# Altium footprint library Ver5.PcbLib: 14 footprints
Each footprint in its own frame and in the unit in brackets; x right, y up, seen from the top. Pads: shape width x height; smd on the part's side, far side on the other; paste and mask are expansions set on the pad; w line width, h text height; cw(c..) or ccw(c..) is an arc to the next point about the centre after c.
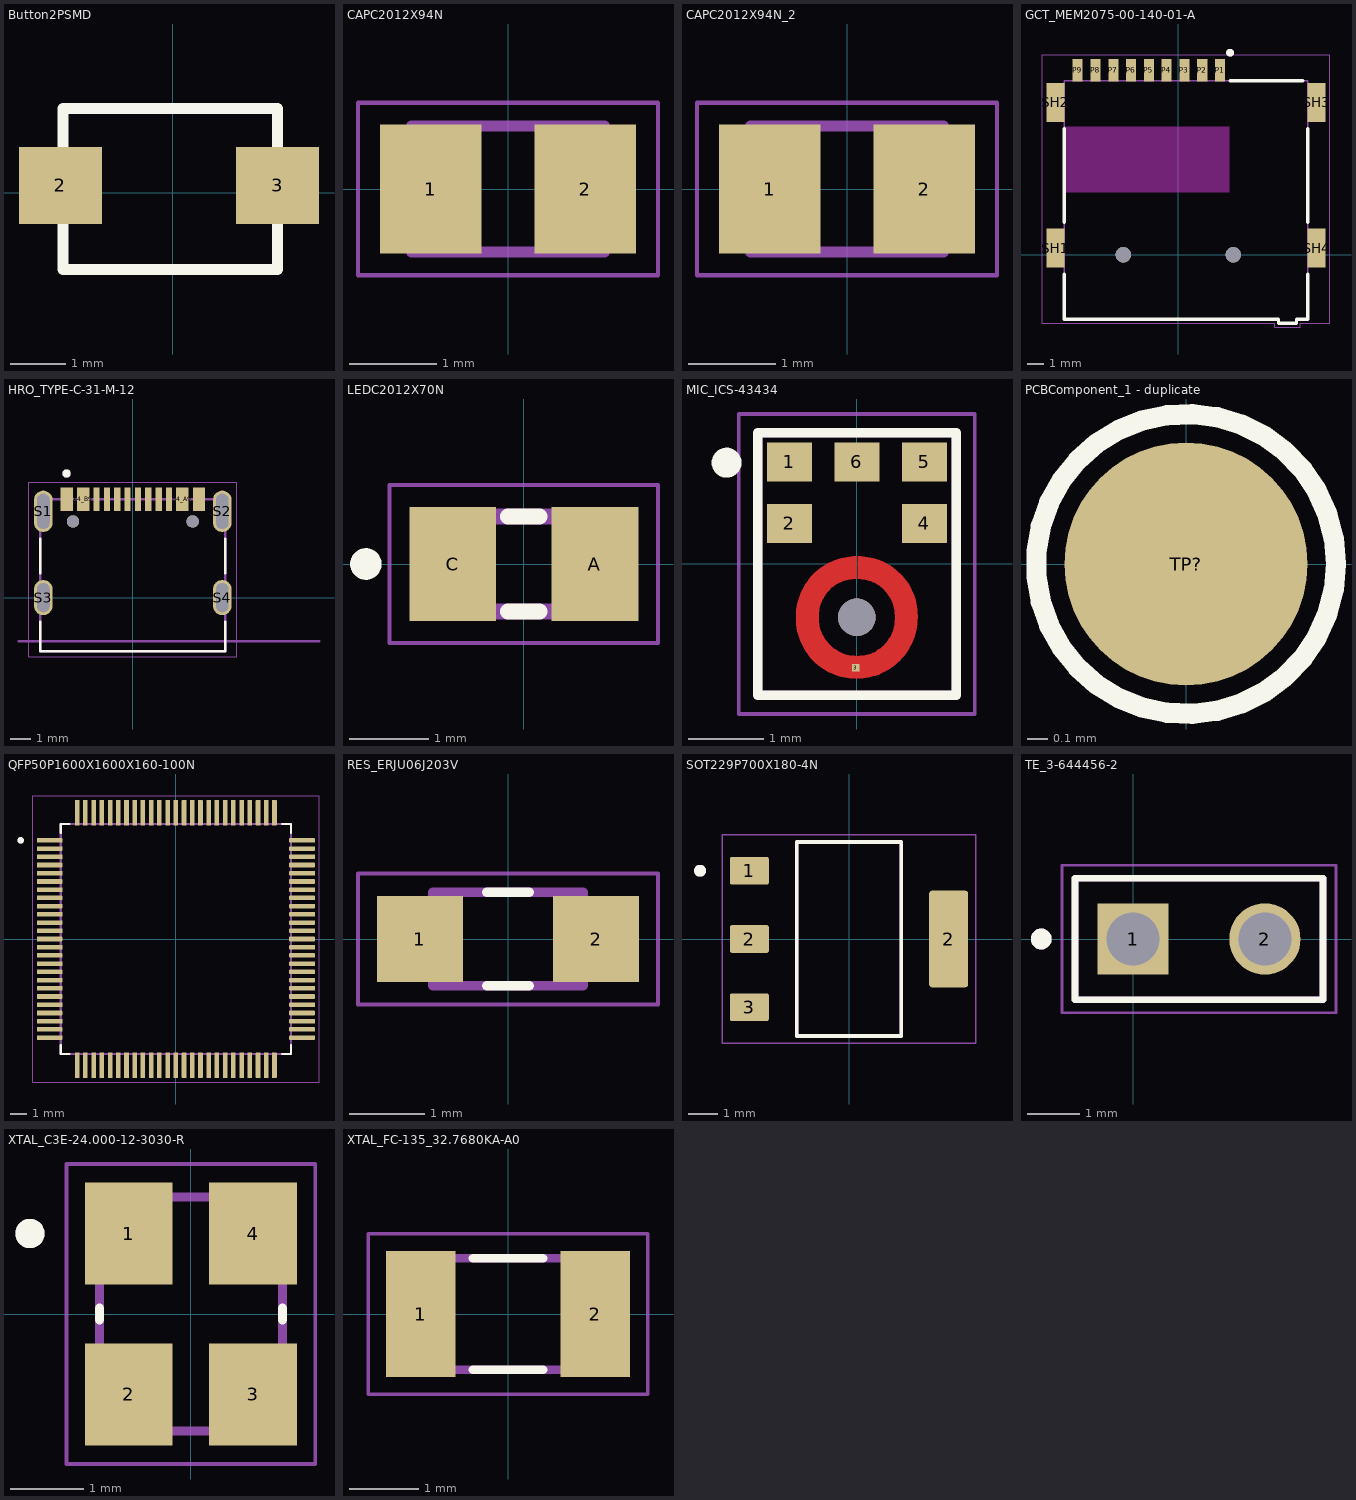
[diagram p0: the footprints below, top view; thin cyan lines are the x and y axes]

## Button2PSMD [mm]
pads (2):
  rect 1.5x1.4 smd: 2(-2.032,0.127) 3(1.905,0.127)
Top Overlay:
  lines w0.2: 1.905,1.503 1.905,-1.397 -1.988,-1.397 -1.988,-0.254 -1.988,1.524 1.905,1.524
3D body "User Library-Pushbutton3x4x2.STEP": height 2, standoff 0, extent -2.45,-1.323 2.45,1.577

## CAPC2012X94N [mm]
pads (2):
  rect 1.16x1.47 smd: 1(-0.88,0) 2(0.88,0)
Mechanical 13:
  lines w0.127: -1.1,-0.72 1.1,-0.72 1.1,0.72 -1.1,0.72 -1.1,-0.72
Mechanical 15:
  lines w0.05: -1.713,-0.983 1.713,-0.983 1.713,0.983 -1.713,0.983 -1.713,-0.983
3D body "step_temp.STEP": height 0.94, standoff 0, extent -1.005,-0.625 1.005,0.625

## CAPC2012X94N_2 [mm]
pads (2):
  rect 1.16x1.47 smd: 1(-0.88,0) 2(0.88,0)
Mechanical 13:
  lines w0.127: -1.1,-0.72 1.1,-0.72 1.1,0.72 -1.1,0.72 -1.1,-0.72
Mechanical 15:
  lines w0.05: -1.713,-0.983 1.713,-0.983 1.713,0.983 -1.713,0.983 -1.713,-0.983
3D body "step_temp.STEP": height 0.94, standoff 0, extent -1.005,-0.625 1.005,0.625

## GCT_MEM2075-00-140-01-A [mm]
pads (15):
  rect 0.62x1.4 smd: P1(2.58,11.42) P2(1.48,11.42) P3(0.38,11.42) P4(-0.72,11.42) P5(-1.82,11.42) P6(-2.92,11.42) P7(-4.02,11.42) P8(-5.12,11.42) P9(-6.22,11.42)
  rect 1.1x2.4 smd: SH1(-7.6,0.42) SH2(-7.6,9.42) SH3(8.55,9.42) SH4(8.55,0.42)
  round 0.95 hole 0.95 unplated: ""(-3.4,0) ""(3.4,0)
Top Overlay:
  circle w0.24: c3.2,12.5 r0.12
  lines w0.2: -7.05,-1.2 -7.05,-3.98 6.2,-3.98 6.2,-4.23 7.3,-4.23 7.3,-3.98 8,-3.98 8,-1.2 ; -7.05,2 -7.05,7.8 ; 3.2,10.77 7.7,10.77 ; 8,2 8,7.8
Keep-Out Layer:
  region: 3.15,3.87 -7.05,3.87 -7.05,7.92 3.15,7.92
Mechanical 13:
  circle w0.24: c3.2,12.5 r0.12
  lines w0.1: -7.05,-3.98 -7.05,10.77 8,10.77 8,-3.98 7.3,-3.98 7.3,-4.23 6.2,-4.23 6.2,-3.98 -7.05,-3.98
Mechanical 15:
  lines w0.05: -8.4,-4.23 5.95,-4.23 5.95,-4.48 7.55,-4.48 7.55,-4.23 9.35,-4.23 9.35,12.37 -8.4,12.37 -8.4,-4.23
3D body "step_temp.STEP": height 1.45, standoff -0.6, extent -7.74,-4.25 8.7,11.6

## HRO_TYPE-C-31-M-12 [mm]
height 3.26
pads (18):
  rect 0.6x1.14 smd mask+0.05: A1_B12(-3.2,4.75) A4_B9(-2.4,4.75) B1_A12(3.2,4.75) B4_A9(2.4,4.75)
  rect 0.3x1.14 smd mask+0.05: A5(-1.25,4.75) A6(-0.25,4.75) A7(0.25,4.75) A8(1.25,4.75) B5(1.75,4.75) B6(0.75,4.75) B7(-0.75,4.75) B8(-1.75,4.75)
  oval 0.9x2 hole 0.6 slot 1.7 at 90 deg: S1(-4.325,4.17) S2(4.325,4.17)
  oval 0.9x1.7 hole 0.6 slot 1.4 at 90 deg: S3(-4.325,0) S4(4.325,0)
  round 0.6 hole 0.6 unplated: ""(-2.89,3.68) ""(2.89,3.68)
Top Overlay:
  circle w0.2: c-3.2,6 r0.1
  lines w0.127: -4.47,-1.17 -4.47,-2.6 4.47,-2.6 4.47,-1.17 ; -4.47,1.17 -4.47,2.85 ; 4.47,1.17 4.47,2.85
Mechanical 13:
  circle w0.2: c-3.2,6 r0.1
  lines w0.127: -5.5,-2.11 9,-2.11 ; -4.47,-2.6 -4.47,4.75 4.47,4.75 4.47,-2.6 -4.47,-2.6
  text "PCB EDGE" at 5.2,-1.9 h0.61
Mechanical 15:
  lines w0.05: -5.025,-2.85 5.025,-2.85 5.025,5.57 -5.025,5.57 -5.025,-2.85
3D body "step_temp.STEP": height 3.31, standoff -0.99, extent -4.47,-2.6 4.47,5.305

## LEDC2012X70N [mm]
pads (2):
  rect 1.1x1.45 smd: A(0.9,0) C(-0.9,0)
Top Overlay:
  circle w0.2: c-2,0 r0.1
  lines w0.2: -0.2,-0.6 0.2,-0.6 ; -0.2,0.6 0.2,0.6
Mechanical 13:
  region: 1,-0.6 0.5,-0.6 0.5,0.6 1,0.6
  region: -0.5,-0.6 -1,-0.6 -1,0.6 -0.5,0.6
  lines w0.2: -1,-0.6 -1,0.6 1,0.6 1,-0.6 -1,-0.6
Mechanical 15:
  lines w0.05: -1.7,-1 -1.7,1 1.7,1 1.7,-1 -1.7,-1
3D body "step_temp.STEP": height 0.7, standoff 0, extent -1,-0.625 1,0.625

## MIC_ICS-43434 [mm]
pads (7):
  rect 0.6x0.522 smd paste-0.05: 1(-0.9,1.361) 2(-0.9,0.539) 4(0.9,0.539) 5(0.9,1.361) 6(0,1.361)
  rect 0.1x0.1 smd paste-1 mask+0: 3(-0.015,-1.383)
  round 0.5 hole 0.5 unplated mask+0.665: ""(0,-0.713)
Top Layer:
  region: 249 vertices and 0 holes, not listed, extent -0.81,-1.53 0.81,0.1
Top Overlay:
  circle w0.2: c-1.737,1.35 r0.1
  lines w0.127: -1.325,-1.75 1.325,-1.75 1.325,1.75 -1.325,1.75 -1.325,-1.75
Top Paste:
  drawing of 4 lines, arcs and shapes, not listed
Mechanical 13:
  lines w0.127: -1.325,-1.753 -1.325,1.747 1.325,1.747 1.325,-1.753 -1.325,-1.753
Mechanical 15:
  lines w0.05: -1.575,-2.003 -1.575,2 1.575,2 1.575,-2.003 -1.575,-2.003
3D body "step_temp.STEP": height 0.98, standoff 0, extent -1.325,-1.75 1.325,1.75

## PCBComponent_1 - duplicate [mm]
pads (1):
  round 1.2 smd paste+0: TP?(0,0)
Top Overlay:
  circle w0.1: c0,0 r0.741
3D body: height 0.03, standoff 0, extent -0.6,-0.6 0.6,0.6

## QFP50P1600X1600X160-100N [mm]
height 1.6
pads (100):
  rrect25% 1.56x0.28 smd: 1(-7.68,6) 2(-7.68,5.5) 3(-7.68,5) 4(-7.68,4.5) 5(-7.68,4) 6(-7.68,3.5) 7(-7.68,3) 8(-7.68,2.5) 9(-7.68,2) 10(-7.68,1.5) 11(-7.68,1) 12(-7.68,0.5) 13(-7.68,0) 14(-7.68,-0.5) 15(-7.68,-1) 16(-7.68,-1.5) 17(-7.68,-2) 18(-7.68,-2.5) 19(-7.68,-3) 20(-7.68,-3.5) 21(-7.68,-4) 22(-7.68,-4.5) 23(-7.68,-5) 24(-7.68,-5.5) 25(-7.68,-6) 51(7.68,-6) 52(7.68,-5.5) 53(7.68,-5) 54(7.68,-4.5) 55(7.68,-4) 56(7.68,-3.5) 57(7.68,-3) 58(7.68,-2.5) 59(7.68,-2) 60(7.68,-1.5) 61(7.68,-1) 62(7.68,-0.5) 63(7.68,0) 64(7.68,0.5) 65(7.68,1) 66(7.68,1.5) 67(7.68,2) 68(7.68,2.5) 69(7.68,3) 70(7.68,3.5) 71(7.68,4) 72(7.68,4.5) 73(7.68,5) 74(7.68,5.5) 75(7.68,6)
  rrect25% 0.28x1.56 smd: 26(-6,-7.68) 27(-5.5,-7.68) 28(-5,-7.68) 29(-4.5,-7.68) 30(-4,-7.68) 31(-3.5,-7.68) 32(-3,-7.68) 33(-2.5,-7.68) 34(-2,-7.68) 35(-1.5,-7.68) 36(-1,-7.68) 37(-0.5,-7.68) 38(0,-7.68) 39(0.5,-7.68) 40(1,-7.68) 41(1.5,-7.68) 42(2,-7.68) 43(2.5,-7.68) 44(3,-7.68) 45(3.5,-7.68) 46(4,-7.68) 47(4.5,-7.68) 48(5,-7.68) 49(5.5,-7.68) 50(6,-7.68) 76(6,7.68) 77(5.5,7.68) 78(5,7.68) 79(4.5,7.68) 80(4,7.68) 81(3.5,7.68) 82(3,7.68) 83(2.5,7.68) 84(2,7.68) 85(1.5,7.68) 86(1,7.68) 87(0.5,7.68) 88(0,7.68) 89(-0.5,7.68) 90(-1,7.68) 91(-1.5,7.68) 92(-2,7.68) 93(-2.5,7.68) 94(-3,7.68) 95(-3.5,7.68) 96(-4,7.68) 97(-4.5,7.68) 98(-5,7.68) 99(-5.5,7.68) 100(-6,7.68)
Top Overlay:
  circle w0.2: c-9.44,6 r0.1
  lines w0.127: -7,-6.46 -7,-7 -6.46,-7 ; -7,6.46 -7,7 -6.46,7 ; 6.46,-7 7,-7 7,-6.46 ; 6.46,7 7,7 7,6.46
Mechanical 13:
  circle w0.2: c-9.44,6 r0.1
  lines w0.127: -7,-7 -7,7 7,7 7,-7 -7,-7
Mechanical 15:
  lines w0.05: -8.71,-8.71 -8.71,8.71 8.71,8.71 8.71,-8.71 -8.71,-8.71
3D body "step_temp.STEP": height 1.6, standoff 0, extent -8,-8 8,8

## RES_ERJU06J203V [mm]
pads (2):
  rect 1.15x1.15 smd: 1(-1.175,0) 2(1.175,0)
Top Overlay:
  lines w0.127: -0.28,-0.625 0.28,-0.625 ; -0.28,0.625 0.28,0.625
Mechanical 13:
  lines w0.127: -1,-0.625 1,-0.625 1,0.625 -1,0.625 -1,-0.625
Mechanical 15:
  lines w0.05: -2,-0.875 2,-0.875 2,0.875 -2,0.875 -2,-0.875
3D body "ERJ6ENF1544V.STEP": height 0.6, standoff 0, extent -1,-0.625 1,0.625

## SOT229P700X180-4N [mm]
height 1.8
pads (4):
  rrect15% 1.31x0.93 smd: 1(-3.345,2.29) 2(-3.345,0) 3(-3.345,-2.29)
  rrect15% 1.31x3.24 smd: 2(3.345,0)
Top Overlay:
  circle w0.2: c-5,2.29 r0.1
  lines w0.127: -1.753,-3.253 1.753,-3.253 1.753,3.253 -1.753,3.253 -1.753,-3.253
Mechanical 13:
  circle w0.2: c-5,2.29 r0.1
  lines w0.127: -1.753,-3.253 1.753,-3.253 1.753,3.253 -1.753,3.253 -1.753,-3.253
Mechanical 15:
  lines w0.05: -4.25,-3.502 -4.25,3.502 4.25,3.502 4.25,-3.502 -4.25,-3.502
3D body "step_temp.STEP": height 1.8, standoff 0, extent -3.499,-3.251 3.499,3.251

## TE_3-644456-2 [mm]
pads (2):
  rect 1.37x1.37 / inner round 1.37 / far side rect 1.37x1.37 hole 1.02: 1(0,0)
  round 1.37 hole 1.02: 2(2.54,0)
Top Overlay:
  circle w0.2: c-1.768,0 r0.1
  lines w0.127: -1.118,-1.168 3.658,-1.168 3.658,1.168 -1.118,1.168 -1.118,-1.168
Mechanical 13:
  circle w0.2: c-1.768,0 r0.1
  lines w0.127: -1.118,-1.168 3.658,-1.168 ; -1.118,-1.168 3.658,-1.168 ; -1.118,-1.168 -1.118,1.168 3.658,1.168 3.658,-1.168
Mechanical 15:
  lines w0.05: -1.368,-1.418 3.908,-1.418 3.908,1.418 -1.368,1.418 -1.368,-1.418
3D body "step_temp.STEP": height 10.03, standoff -2.79, extent -1.118,-1.168 3.658,1.168

## XTAL_C3E-24.000-12-3030-R [mm]
height 0.75
pads (4):
  rect 1.2x1.4 smd: 1(-0.85,1.1) 2(-0.85,-1.1) 3(0.85,-1.1) 4(0.85,1.1)
Top Overlay:
  circle w0.2: c-2.2,1.1 r0.1
  lines w0.127: -1.25,-0.08 -1.25,0.08 ; 1.25,-0.08 1.25,0.08
Mechanical 13:
  circle w0.2: c-2.2,1.1 r0.1
  lines w0.127: -1.25,-1.6 1.25,-1.6 1.25,1.6 -1.25,1.6 -1.25,-1.6
Mechanical 15:
  lines w0.05: -1.7,-2.05 1.7,-2.05 1.7,2.05 -1.7,2.05 -1.7,-2.05
3D body "step_temp.STEP": height 0.75, standoff 0, extent -1.25,-1.6 1.25,1.6

## XTAL_FC-135_32.7680KA-A0 [mm]
pads (2):
  rect 1x1.8 smd: 1(-1.25,0) 2(1.25,0)
Top Overlay:
  lines w0.127: -0.5,-0.8 0.5,-0.8 ; -0.5,0.8 0.5,0.8
Mechanical 13:
  lines w0.127: -1.65,-0.8 -1.65,0.8 1.65,0.8 1.65,-0.8 -1.65,-0.8
Mechanical 15:
  lines w0.05: -2,-1.15 -2,1.15 2,1.15 2,-1.15 -2,-1.15
3D body "step_temp.STEP": height 0.9, standoff 0, extent -1.6,-0.75 1.6,0.75